# Altium footprint library MM5130_FOOTPRINT.PcbLib: 3 footprints
Each footprint in its own frame and in the unit in brackets; x right, y up, seen from the top. Pads: shape width x height; smd on the part's side, far side on the other; paste and mask are expansions set on the pad; w line width, h text height; cw(c..) or ccw(c..) is an arc to the next point about the centre after c.
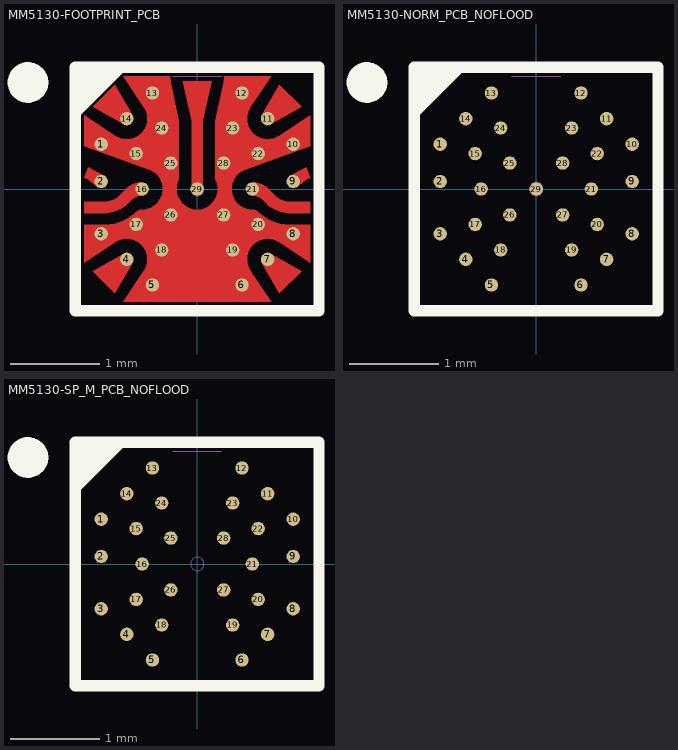
[diagram p0: the footprints below, top view; thin cyan lines are the x and y axes]

## MM5130-FOOTPRINT_PCB [mm]
height 3.5
pads (29):
  round 0.15 smd mask+0.025: 1(-1.072,0.5) 2(-1.072,0.084) 3(-1.072,-0.5) 4(-0.786,-0.786) 5(-0.5,-1.072) 6(0.5,-1.072) 7(0.786,-0.786) 8(1.072,-0.5) 9(1.072,0.084) 10(1.072,0.5) 11(0.786,0.786) 12(0.5,1.072) 13(-0.5,1.072) 14(-0.786,0.786) 15(-0.681,0.396) 16(-0.615,0) 17(-0.681,-0.396) 18(-0.396,-0.681) 19(0.396,-0.681) 20(0.681,-0.396) 21(0.615,0) 22(0.681,0.396) 23(0.396,0.681) 24(-0.396,0.681) 25(-0.295,0.29) 26(-0.295,-0.29) 27(0.295,-0.29) 28(0.295,0.29) 29(0,0)
Top Layer:
  region: 187 vertices and 0 holes, not listed, extent -1.26,-1.26 1.26,1.26
  region: 1.26,0.124 1.221,0.11 1.113,0.021 1.036,0.15 1.217,0.243
  region: -1.166,0.919 -0.823,0.721 -0.721,0.823 -0.919,1.166
  region: -0.064,0 0.064,0 0.064,0.76 0.16,1.205 -0.16,1.205 -0.064,0.76
  region: -1.26,0.124 -1.221,0.11 -1.113,0.021 -1.036,0.15 -1.217,0.243
  region: 0.919,1.166 0.721,0.823 0.823,0.721 1.166,0.919
  region: -0.919,-1.166 -0.721,-0.823 -0.823,-0.721 -1.166,-0.919
  region: 1.166,-0.919 0.823,-0.721 0.721,-0.823 0.919,-1.166
  region: -0.626,0.074 -0.648,0.074 -0.692,0.065 -0.733,0.048 -0.77,0.023 -0.786,0.008 -0.864,-0.07 -0.882,-0.087 -0.923,-0.115 -0.969,-0.134 -1.018,-0.143 -1.043,-0.145 -1.26,-0.145 -1.26,-0.272 -1.043,-0.272 -1.005,-0.272 -0.93,-0.257 -0.859,-0.227 -0.796,-0.185 -0.769,-0.158 -0.745,-0.134 -0.73,-0.12 -0.696,-0.098 -0.659,-0.083 -0.62,-0.075 -0.6,-0.074
  region: 0.626,0.074 0.648,0.074 0.692,0.065 0.733,0.048 0.77,0.023 0.786,0.008 0.864,-0.07 0.882,-0.087 0.923,-0.115 0.969,-0.134 1.018,-0.143 1.043,-0.145 1.26,-0.145 1.26,-0.272 1.043,-0.272 1.005,-0.272 0.93,-0.257 0.859,-0.227 0.796,-0.185 0.769,-0.158 0.745,-0.134 0.73,-0.12 0.696,-0.098 0.659,-0.083 0.62,-0.075 0.6,-0.074
Top Overlay:
  circle w0.254: c-1.89,1.19 r0.1
  region: -0.77,1.36 -1.33,0.8 -1.38,0.8 -1.38,1.34 -1.36,1.36
  lines w0.127: -1.36,-1.36 1.36,-1.36 1.36,1.36 -1.36,1.36 -1.36,-1.36
Mechanical 16:
  circle w0.001: c0,0 r0.075
  lines w0.001: -0.275,1.26 0.275,1.26
3D body "MM5130_model.step": height 0.98, standoff 0, extent -1.27,-1.27 1.27,1.27

## MM5130-NORM_PCB_NOFLOOD [mm]
height 1
pads (29):
  round 0.15 smd mask+0.025: 1(-1.072,0.5) 2(-1.072,0.084) 3(-1.072,-0.5) 4(-0.786,-0.786) 5(-0.5,-1.072) 6(0.5,-1.072) 7(0.786,-0.786) 8(1.072,-0.5) 9(1.072,0.084) 10(1.072,0.5) 11(0.786,0.786) 12(0.5,1.072) 13(-0.5,1.072) 14(-0.786,0.786) 15(-0.681,0.396) 16(-0.615,0) 17(-0.681,-0.396) 18(-0.396,-0.681) 19(0.396,-0.681) 20(0.681,-0.396) 21(0.615,0) 22(0.681,0.396) 23(0.396,0.681) 24(-0.396,0.681) 25(-0.295,0.29) 26(-0.295,-0.29) 27(0.295,-0.29) 28(0.295,0.29) 29(0,0)
Top Overlay:
  circle w0.254: c-1.89,1.19 r0.1
  region: -0.77,1.36 -1.33,0.8 -1.38,0.8 -1.38,1.34 -1.36,1.36
  lines w0.127: -1.36,-1.36 -1.36,1.36 1.36,1.36 1.36,-1.36 -1.36,-1.36
  text ".Designator" at 2.475,0.178 h0.64
Mechanical 16:
  circle w0.001: c0,0 r0.075
  lines w0.001: -0.275,1.26 0.275,1.26
3D body "MM5130_model.step": height 0.98, standoff 0, extent -1.27,-1.27 1.27,1.27

## MM5130-SP_M_PCB_NOFLOOD [mm]
height 1
pads (29):
  round 0.15 smd mask+0.025: 1(-1.072,0.5) 2(-1.072,0.084) 3(-1.072,-0.5) 4(-0.786,-0.786) 5(-0.5,-1.072) 6(0.5,-1.072) 7(0.786,-0.786) 8(1.072,-0.5) 9(1.072,0.084) 10(1.072,0.5) 11(0.786,0.786) 12(0.5,1.072) 13(-0.5,1.072) 14(-0.786,0.786) 15(-0.681,0.396) 16(-0.615,0) 17(-0.681,-0.396) 18(-0.396,-0.681) 19(0.396,-0.681) 20(0.681,-0.396) 21(0.615,0) 22(0.681,0.396) 23(0.396,0.681) 24(-0.396,0.681) 25(-0.295,0.29) 26(-0.295,-0.29) 27(0.295,-0.29) 28(0.295,0.29)
  round 0 smd paste-2539.97 mask-2539.97: 29(0,0)
Top Overlay:
  circle w0.254: c-1.89,1.19 r0.1
  region: -0.77,1.36 -1.33,0.8 -1.38,0.8 -1.38,1.34 -1.36,1.36
  lines w0.127: -1.36,-1.36 1.36,-1.36 1.36,1.36 -1.36,1.36 -1.36,-1.36
  text ".Designator" at 2.475,0.178 h0.64
Top Paste:
  circle w0: c0,0 r0
Top Solder:
  circle w0.1: c0,0 r0.05
Mechanical 16:
  circle w0.001: c0,0 r0.075
  lines w0.001: -0.275,1.26 0.275,1.26
3D body "MM5130_model.step": height 0.98, standoff 0, extent -1.27,-1.27 1.27,1.27